# Altium integrated library Zilog Memory FIFO Register.IntLib: 2 symbols
Pins are listed as number, name and electrical type; pins without a type are passive.

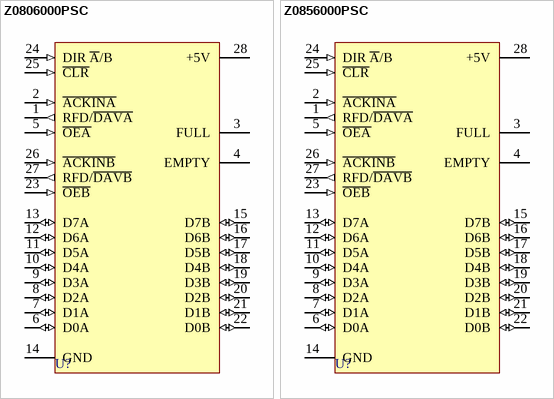
[diagram p0: symbols Z0806000PSC to Z0856000PSC]

## Z0806000PSC
designator U?
FIFO Buffer Unit; Published: 15-Apr-2002; LatestRevisionDate: 04-Mar-2005; LatestRevisionNote: Stylized 3D Model Added.; DatasheetVersion: Oct-1988; PackageVersion: 2001; PackageReference: PDIP28; Publisher: Altium Limited; PackageDescription: DIP; 28 Leads; Row Spacing 15.24 mm; Pitch 2.54 mm; ComponentLink1Description: Manufacturer Link; ComponentLink1URL: http://www.zilog.com/
footprint PDIP28 (DIP; 28 Leads; Row Spacing 15.24 mm; Pitch 2.54 mm)
3D model PDIP28 (DIP; 28 Leads; Row Spacing 15.24 mm; Pitch 2.54 mm)
pins: 1 RFD/~{DAVA} (out), 2 ~{ACKINA} (in), 3 FULL (oc), 4 EMPTY (oc), 5 ~{OEA} (in), 6 D0A (io), 7 D1A (io), 8 D2A (io), 9 D3A (io), 10 D4A (io), 11 D5A (io), 12 D6A (io), 13 D7A (io), 14 GND (power), 15 D7B (io), 16 D6B (io), 17 D5B (io), 18 D4B (io), 19 D3B (io), 20 D2B (io), 21 D1B (io), 22 D0B (io), 23 ~{OEB} (in), 24 DIR ~{A}/B (in), 25 ~{CLR} (in), 26 ~{ACKINB} (in), 27 RFD/~{DAVB} (out), 28 +5V (power)

## Z0856000PSC
designator U?
FIFO Buffer Unit; Published: 15-Apr-2002; LatestRevisionDate: 04-Mar-2005; LatestRevisionNote: Stylized 3D Model Added.; DatasheetVersion: Oct-1988; PackageVersion: 2001; PackageReference: PDIP28; Publisher: Altium Limited; PackageDescription: DIP; 28 Leads; Row Spacing 15.24 mm; Pitch 2.54 mm; ComponentLink1Description: Manufacturer Link; ComponentLink1URL: http://www.zilog.com/
footprint PDIP28 (DIP; 28 Leads; Row Spacing 15.24 mm; Pitch 2.54 mm)
3D model PDIP28 (DIP; 28 Leads; Row Spacing 15.24 mm; Pitch 2.54 mm)
pins: 1 RFD/~{DAVA} (out), 2 ~{ACKINA} (in), 3 FULL (oc), 4 EMPTY (oc), 5 ~{OEA} (in), 6 D0A (io), 7 D1A (io), 8 D2A (io), 9 D3A (io), 10 D4A (io), 11 D5A (io), 12 D6A (io), 13 D7A (io), 14 GND (power), 15 D7B (io), 16 D6B (io), 17 D5B (io), 18 D4B (io), 19 D3B (io), 20 D2B (io), 21 D1B (io), 22 D0B (io), 23 ~{OEB} (in), 24 DIR ~{A}/B (in), 25 ~{CLR} (in), 26 ~{ACKINB} (in), 27 RFD/~{DAVB} (out), 28 +5V (power)